# Altium schematic symbol library Sch_Rele.SchLib: 1 symbol
Pins are listed as number, name and electrical type; pins without a type are passive.

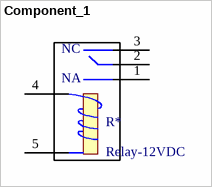
[diagram p0: symbol Component_1]

## Component_1
designator R*, comment Relay-12VDC
footprint Rele (Rele - 5pin)
pins: 1, 2, 3, 4, 5
text: NC; NA